# Altium schematic symbol library 06035C104KAT2A.SchLib: 1 symbol
Pins are listed as number, name and electrical type; pins without a type are passive.

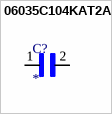
[diagram p0: symbol 06035C104KAT2A]

## 06035C104KAT2A
designator C?
CAPACITOR, 0603, 100NF, 50V, X7R; Application:Standard; Capacitance:100000pF; Capacitance Tolerance:Â± 10%; Series:06035C; Voltage, Rating:50V dc; Capacitor Dielectric Type:Ceramic Multi-Layer; Case Style:0603; Termination Type:SMD; Dielectric Characteristic:X7R; Max Operating Temperature:125Â°C; Min Temperature Operating:-55Â°C; Operating Temperature Range:-55Â°C to +125Â°C; Terminal Type:Surface Mount (SMD, SMT); Tolerance, +:10%; Tolerance, -:10%; Voltage Rating, DC:50V; MF: {'manufacturer': u'AVX'}; MP: 06035C104KAT2A; Package: None; Price: None; Value: *; Availability: Unavailable
footprint CAPC1608X90N
pins: 1, 2